# Altium footprint library PCB.PcbLib: 224 footprints (part 6 of 14)
Each footprint in its own frame and in the unit in brackets; x right, y up, seen from the top. Pads: shape width x height; smd on the part's side, far side on the other; paste and mask are expansions set on the pad; w line width, h text height; cw(c..) or ccw(c..) is an arc to the next point about the centre after c.
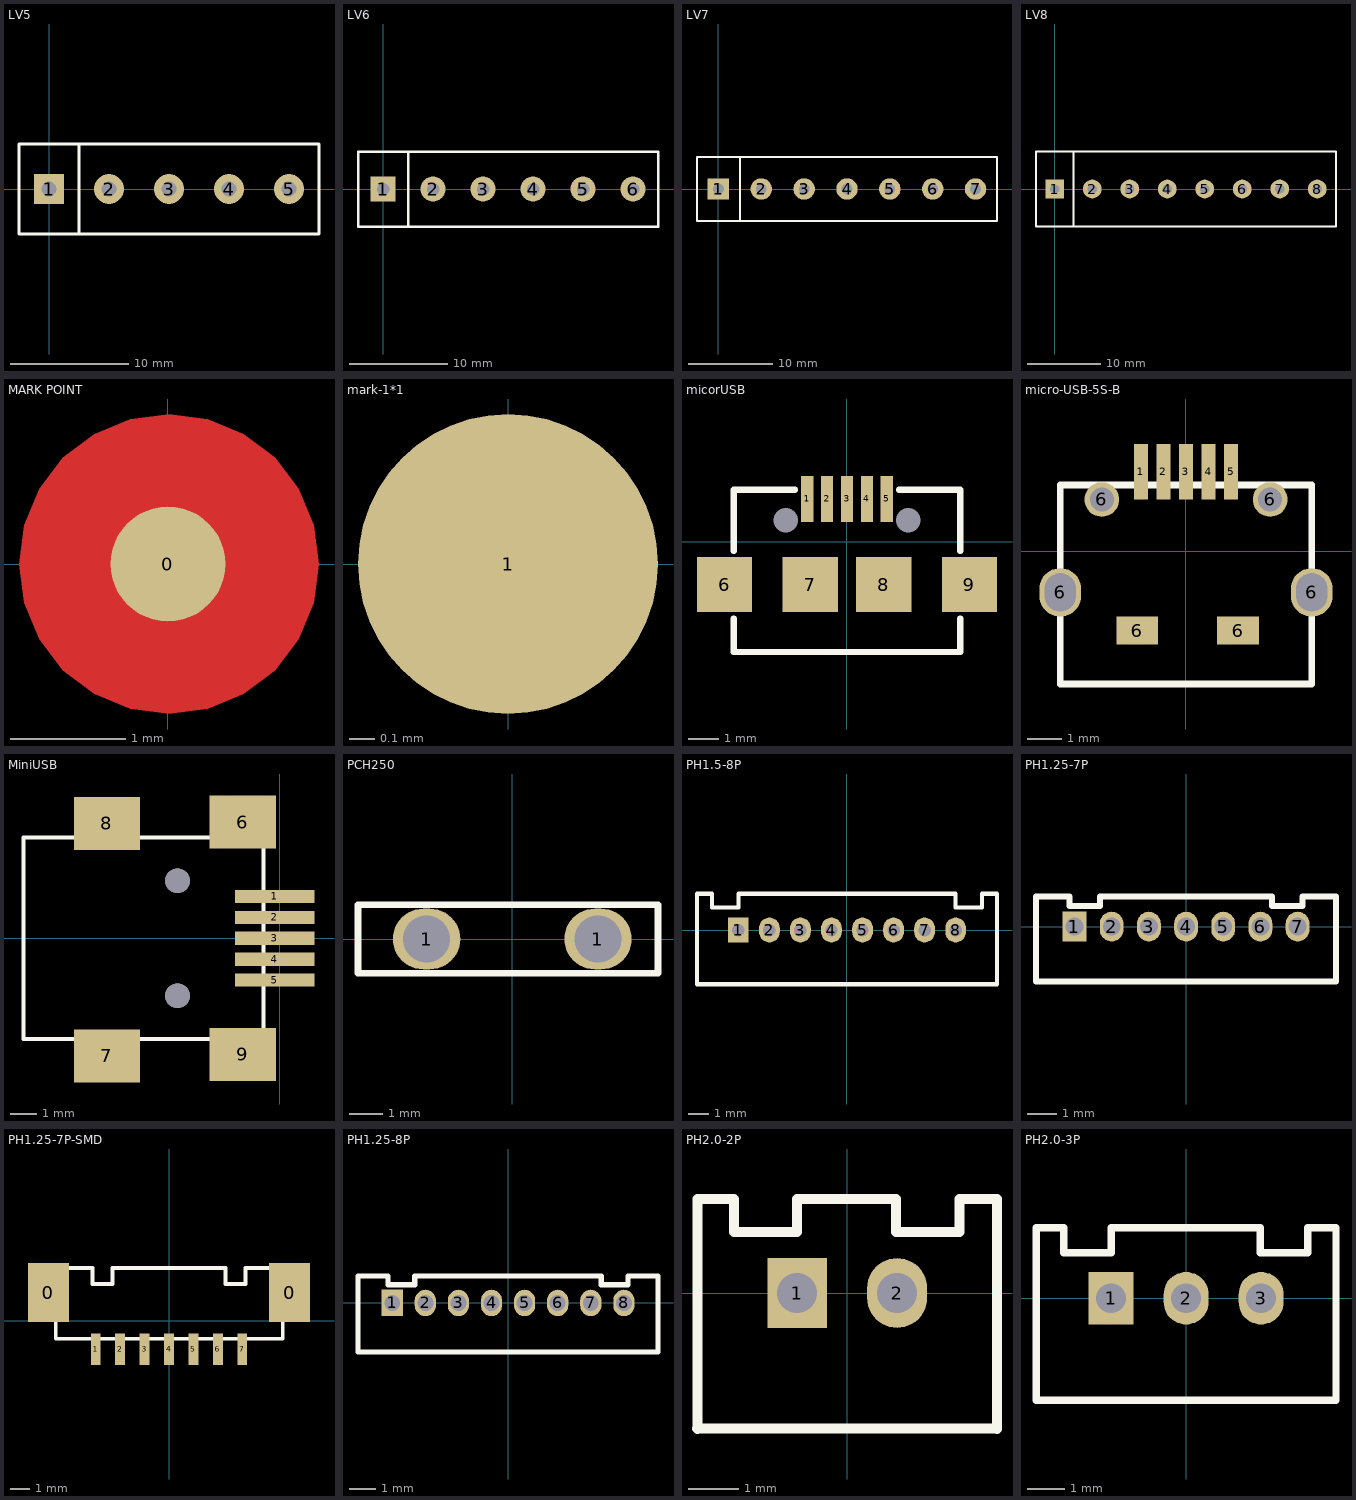
[diagram p5: the footprints below, top view; thin cyan lines are the x and y axes]

## LV5 [mm]
pads (5):
  rect 2.54x2.54 hole 1.27: 1(0,0)
  round 2.54 hole 1.27: 2(5.08,0) 3(10.16,0) 4(15.24,0) 5(20.32,0)
Top Overlay:
  lines w0.254: 2.54,-3.81 2.54,3.81 ; -2.54,-3.81 -2.54,3.81 22.86,3.81 22.86,-3.81 -2.54,-3.81

## LV6 [mm]
pads (6):
  rect 2.54x2.54 hole 1.27: 1(0,0)
  round 2.54 hole 1.27: 2(5.08,0) 3(10.16,0) 4(15.24,0) 5(20.32,0) 6(25.4,0)
Top Overlay:
  lines w0.254: 2.54,-3.81 2.54,3.81 ; -2.54,-3.81 -2.54,3.81 27.94,3.81 27.94,-3.81 -2.54,-3.81

## LV7 [mm]
pads (7):
  rect 2.54x2.54 hole 1.27: 1(0,0)
  round 2.54 hole 1.27: 2(5.08,0) 3(10.16,0) 4(15.24,0) 5(20.32,0) 6(25.4,0) 7(30.48,0)
Top Overlay:
  lines w0.254: 2.54,-3.81 2.54,3.81 ; -2.54,-3.81 -2.54,3.81 33.02,3.81 33.02,-3.81 -2.54,-3.81

## LV8 [mm]
pads (8):
  rect 2.54x2.54 hole 1.27: 1(0,0)
  round 2.54 hole 1.27: 2(5.08,0) 3(10.16,0) 4(15.24,0) 5(20.32,0) 6(25.4,0) 7(30.48,0) 8(35.56,0)
Top Overlay:
  lines w0.254: 2.54,-5.08 2.54,5.08 ; -2.54,-5.08 38.1,-5.08 38.1,5.08 -2.54,5.08 -2.54,-5.08

## MARK POINT [mm]
pads (1):
  round 1 smd mask+0.7: 0(0,0)
Top Layer:
  pour cut-out: 0.009,-1.304 -0.329,-1.26 -0.643,-1.13 -0.913,-0.922 -1.121,-0.652 -1.251,-0.338 -1.295,0 -1.251,0.338 -1.121,0.652 -0.913,0.922 -0.643,1.13 -0.329,1.26 0.009,1.304 0.346,1.26 0.661,1.13 0.931,0.922 1.138,0.652 1.269,0.338 1.313,0 1.269,-0.338 1.138,-0.652 0.931,-0.922 0.661,-1.13 0.346,-1.26

## mark-1*1 [mm]
pads (1):
  round 1.2 smd: 1(0,0)

## micorUSB [mm]
pads (11):
  round 0 hole 0.8: 0(-2,0.7) 0(2,0.7)
  rect 0.4x1.5 smd: 1(-1.3,1.4) 2(-0.65,1.4) 3(0,1.4) 4(0.65,1.4) 5(1.3,1.4)
  rect 1.8x1.8 smd: 6(-4,-1.4) 7(-1.2,-1.4) 8(1.2,-1.4) 9(4,-1.4)
Top Overlay:
  lines w0.2: -3.7,-2.5 -3.7,-3.6 3.7,-3.6 3.7,-2.5 ; -3.7,-0.3 -3.7,1.7 -1.7,1.7 ; 1.7,1.7 3.7,1.7 3.7,-0.3

## micro-USB-5S-B [mm]
pads (11):
  rect 0.4x1.6 smd: 1(-1.3,2.29) 2(-0.65,2.29) 3(0,2.29) 4(0.65,2.29) 5(1.3,2.29)
  oval 1.2x1.4 hole 0.9 slot 1.1 at 90 deg: 6(-3.625,-1.19) 6(3.625,-1.19)
  round 1 hole 0.7: 6(-2.425,1.49) 6(2.425,1.49)
  rect 1.2x0.8 smd: 6(-1.41,-2.29) 6(1.5,-2.29)
Top Overlay:
  lines w0.2: -3.625,-3.832 -3.625,1.909 3.625,1.909 3.625,-3.832 -3.625,-3.832

## MiniUSB [mil]
height 74.8
pads (11):
  rect 120x20 smd: 1(-7.08,62.8) 2(-7.27,31.3) 3(-7.27,-0.2) 4(-7.27,-31.69) 5(-7.27,-63.19)
  rect 100x80 smd: 6(-55.31,174.8) 7(-260.04,-177.36) 8(-260.04,173.03) 9(-55.31,-175.2)
  round 37 hole 37 unplated: ""(-153.74,-86.81) ""(-153.74,86.42)
Top Overlay:
  lines w6: -386.02,-151.77 -23.82,-151.77 -23.82,-110.43 -23.82,110.04 -23.82,151.38 -386.02,151.38 -386.02,-151.77
3D body: height 68.9, standoff 9.84, extent -386.02,-151.77 -23.82,151.38

## PCH250 [mm]
pads (2):
  oval 2x1.8 hole 1.4: 1(-2.54,0) 1(2.54,0)
Top Overlay:
  lines w0.2: -4.572,-1.016 4.318,-1.016 4.318,1.016 -4.572,1.016 -4.572,-1.016

## PH1.5-8P [mm]
pads (8):
  rect 1x1.2 hole 0.6 unplated: 1(-5.25,0)
  oval 1x1.2 hole 0.6 unplated: 2(-3.75,0) 3(-2.25,0) 4(-0.75,0) 5(0.75,0) 6(2.25,0) 7(3.75,0) 8(5.25,0)
Top Overlay:
  lines w0.2: -7.25,1.753 -7.25,-2.616 7.221,-2.616 ; -7.231,1.753 -6.52,1.753 -6.52,1.092 -5.25,1.092 -5.25,1.753 5.24,1.753 ; 5.25,1.753 5.25,1.092 6.52,1.092 6.52,1.753 7.231,1.753 ; 7.25,-2.616 7.25,1.753

## PH1.25-7P [mm]
pads (7):
  rect 0.8x1 hole 0.6 unplated: 1(-3.75,0)
  oval 0.8x1 hole 0.6 unplated: 2(-2.5,0) 3(-1.25,0) 4(0,0) 5(1.25,0) 6(2.5,0) 7(3.75,0)
Top Overlay:
  lines w0.2: -5.044,-1.849 -5.044,1.016 -3.912,1.016 -3.912,0.686 -2.896,0.686 -2.896,1.016 2.892,1.016 2.892,0.686 3.908,0.686 3.908,1.016 5.04,1.016 5.04,-1.849 -5.044,-1.849

## PH1.25-7P-SMD [mm]
pads (9):
  rect 2.1x3 smd: 0(-6.172,1.448) 0(6.172,1.448)
  rect 0.5x1.6 smd: 1(-3.75,-1.448) 2(-2.5,-1.448) 3(-1.25,-1.448) 4(0,-1.448) 5(1.25,-1.448) 6(2.5,-1.448) 7(3.75,-1.448)
Top Overlay:
  lines w0.2: -5.791,-0.914 -5.791,2.692 -3.912,2.692 -3.912,1.88 -2.896,1.88 -2.896,2.692 2.892,2.692 2.892,1.88 3.908,1.88 3.908,2.692 5.817,2.692 5.817,-0.914 -5.791,-0.914

## PH1.25-8P [mm]
pads (8):
  rect 0.8x1 hole 0.6 unplated: 1(-4.375,0)
  oval 0.8x1 hole 0.6 unplated: 2(-3.125,0) 3(-1.875,0) 4(-0.625,0) 5(0.625,0) 6(1.875,0) 7(3.125,0) 8(4.375,0)
Top Overlay:
  lines w0.2: -5.669,-1.849 5.665,-1.849 5.665,1.016 4.533,1.016 4.533,0.686 3.517,0.686 3.517,1.016 -3.521,1.016 -3.521,0.686 -4.537,0.686 -4.537,1.016 -5.669,1.016 -5.669,-1.849

## PH2.0-2P [mm]
pads (2):
  rect 1.2x1.4 hole 0.8 unplated: 1(-1,0)
  oval 1.2x1.4 hole 0.8 unplated: 2(1,0)
Top Overlay:
  lines w0.2: -3.007,-2.718 2.988,-2.718 ; -3,-2.72 -3,1.88 ; -2.981,1.88 -2.27,1.88 -2.27,1.219 -1,1.219 -1,1.88 ; -0.975,1.88 0.956,1.88 ; 0.981,1.88 0.981,1.219 2.251,1.219 2.251,1.88 2.988,1.88 ; 3,-2.72 3,1.88

## PH2.0-3P [mm]
pads (3):
  rect 1.2x1.4 hole 0.8 unplated: 1(-2,0)
  oval 1.2x1.4 hole 0.8 unplated: 2(0,0) 3(2,0)
Top Overlay:
  lines w0.2: -4.007,-2.718 4,-2.718 ; -4,-2.72 -4,1.88 ; -3.981,1.88 -3.27,1.88 -3.27,1.219 -2,1.219 -2,1.88 ; -1.975,1.88 1.981,1.88 1.981,1.219 3.251,1.219 3.251,1.88 3.988,1.88 ; 4,-2.72 4,1.88